# Altium footprint library Custom pcb footprint.PcbLib: 46 footprints (part 3 of 3)
Each footprint in its own frame and in the unit in brackets; x right, y up, seen from the top. Pads: shape width x height; smd on the part's side, far side on the other; paste and mask are expansions set on the pad; w line width, h text height; cw(c..) or ccw(c..) is an arc to the next point about the centre after c.
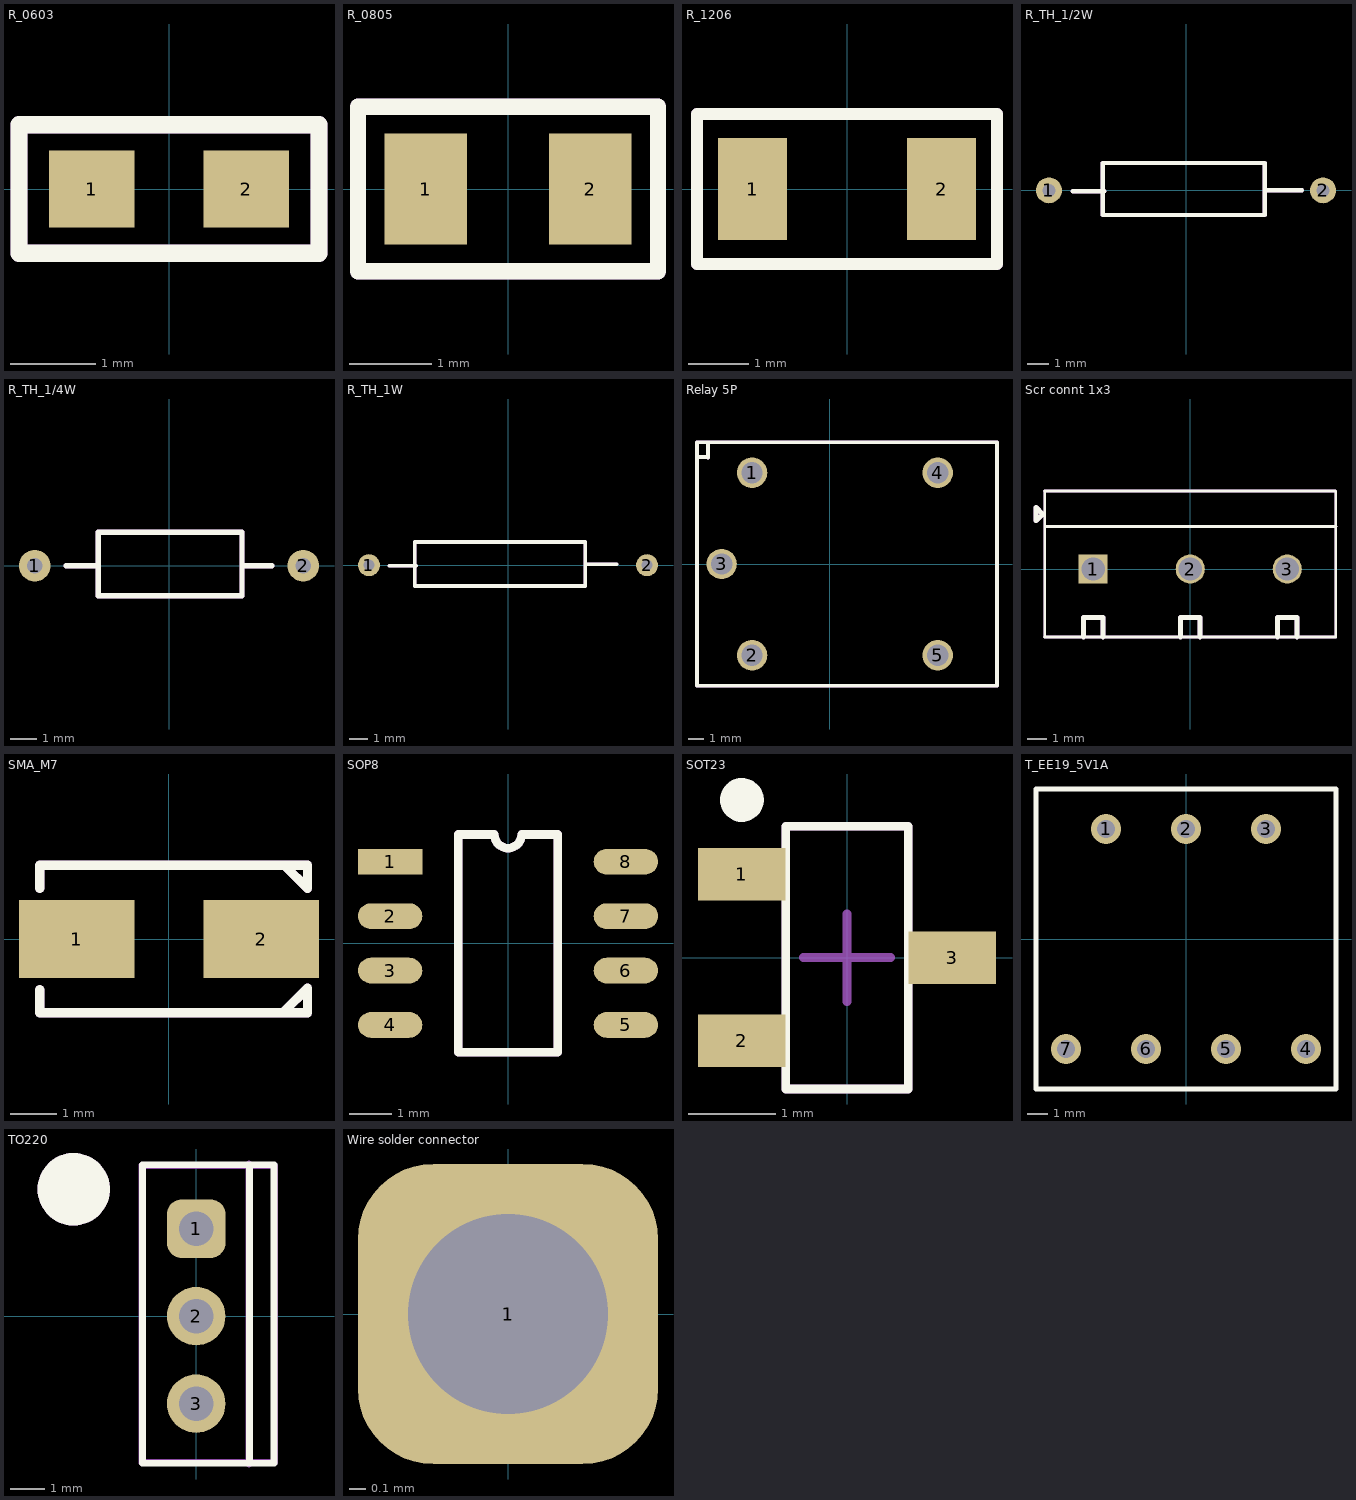
[diagram p2: the footprints below, top view; thin cyan lines are the x and y axes]

## R_0603 [mm]
pads (2):
  rect 1x0.9 smd: 1(-0.9,0) 2(0.9,0)
Top Overlay:
  lines w0.2: -1.75,-0.75 -1.75,0.75 1.75,0.75 1.75,-0.75 -1.75,-0.75
Top Assembly:
  lines w0.2: -1.75,-0.75 -1.75,0.75 1.75,0.75 1.75,-0.75 -1.75,-0.75
  text "'.Designator'" at -1.4,-0.167 h0.7
3D body "RC0603JR-070RL--3DModel-STEP-510211.STEP": height 0.56, standoff 0.01, extent -0.8,-0.4 0.8,0.4

## R_0805 [mm]
pads (2):
  rect 1x1.35 smd: 1(-1,0) 2(1,0)
Top Overlay:
  lines w0.2: -1.825,-1 -1.825,1 1.825,1 1.825,-1 -1.825,-1
Top Assembly:
  lines w0.2: -1.825,-1 -1.825,1 1.825,1 1.825,-1 -1.825,-1
  text "'.Designator'" at -1.725,-0.667 h0.7
3D body "RC0805FR-07470RL.STEP": height 0.61, standoff 0.01, extent -1,-0.625 1,0.625

## R_1206 [mm]
pads (2):
  rect 1.15x1.7 smd: 1(-1.575,0) 2(1.575,0)
Top Overlay:
  lines w0.2: -2.5,-1.25 2.5,-1.25 2.5,1.25 -2.5,1.25 -2.5,-1.25
Top Assembly:
  lines w0.2: -2.5,-1.25 2.5,-1.25 2.5,1.25 -2.5,1.25 -2.5,-1.25
  text "'.Designator'" at -2.15,-0.417 h0.7
3D body "RC1206JR-0713RL.STEP": height 0.66, standoff 0.01, extent -1.55,-0.8 1.55,0.8

## R_TH_1/2W [mm]
pads (2):
  round 1.2 hole 0.6: 1(-6.35,0) 2(6.35,0)
Top Overlay:
  lines w0.2: -5.245,-0.041 -3.781,-0.041 ; 3.65,0 5.37,0 ; -3.85,-1.143 3.65,-1.143 3.65,1.27 -3.85,1.27 -3.85,-1.143
Top Assembly:
  lines w0.2: -5.245,-0.041 -3.781,-0.041 ; 3.65,0 5.37,0 ; -3.85,-1.143 3.65,-1.143 3.65,1.27 -3.85,1.27 -3.85,-1.143
  text "'.Designator'" at -3.575,-0.565 h1.52
3D body "R_TH_500mW.step": height 3.6, standoff -1.92, extent -6.668,-1.506 6.582,1.687

## R_TH_1/4W [mm]
pads (2):
  round 1.2 hole 0.6: 1(-5.1,0) 2(5.1,0)
Top Overlay:
  lines w0.2: -3.9,0 -2.687,0 ; 2.774,0 3.9,0 ; -2.687,-1.143 -2.687,1.27 2.774,1.27 2.774,-1.143 -2.687,-1.143
Top Assembly:
  lines w0.2: -3.9,0 -2.687,0 ; 2.774,0 3.9,0 ; -2.687,-1.143 -2.687,1.27 2.774,1.27 2.774,-1.143 -2.687,-1.143
  text "'.Designator'" at -2.687,-0.635 h1.52
3D body "R_TH_250mW.step": height 2.8, standoff -1.92, extent -5.345,-1.152 5.305,1.143

## R_TH_1W [mm]
pads (2):
  round 1.2 hole 0.6: 1(-7.6,0) 2(7.6,0)
Top Overlay:
  lines w0.2: -6.495,-0.041 -5.031,-0.041 ; 4.222,0.054 5.942,0.054 ; -5.1,-1.143 -5.1,1.27 4.23,1.27 4.23,-1.143 -5.1,-1.143
Top Assembly:
  lines w0.2: -6.495,-0.041 -5.031,-0.041 ; 4.222,0.054 5.942,0.054 ; -5.1,-1.143 -5.1,1.27 4.23,1.27 4.23,-1.143 -5.1,-1.143
  text "'.Designator'" at -5.58,-0.746 h1.52
3D body "R_Th_1W.step": height 4.9, standoff -1.92, extent -7.99,-2.272 7.99,2.272

## Relay 5P [mm]
pads (5):
  round 2 hole 1.4: 1(-5.1,6) 2(-5.1,-6) 3(-7.1,0) 4(7.1,6) 5(7.1,-6)
Top Overlay:
  lines w0.254: -8.697,7.032 -7.983,7.032 ; -8,7 -8,8 ; -8.718,-8 11,-8 11,8 -8.718,8 -8.718,-8
Top Assembly:
  lines w0.254: -8.665,7.024 -8.024,7.024 -8,7 -8,8 ; -8.718,-8 11,-8 11,8 -8.718,8 -8.718,-8
  text "'.Designator'" at -2.746,-2.238 h1.52
3D body "Relay_SRD-05VDC-SL-C.STEP": height 16.2, standoff -2.6, extent -8.6,-7.8 10.6,7.8

## Scr connt 1x3 [mm] "p=5mm"
pads (3):
  rect 1.5x1.5 hole 1.2: 1(-5,0)
  round 1.5 hole 1.2: 2(0,0) 3(5,0)
Top Overlay:
  lines w0.15: -7.509,4.026 7.491,4.026 ; -7.5,-3.5 7.5,-3.5 7.5,4 ; -7.496,-3.502 -7.496,3.998 ; -7.488,2.199 7.512,2.199
  lines w0.254: -5.5,-3.5 -5.5,-2.5 -4.5,-2.5 -4.5,-3.5 ; -0.5,-3.5 -0.5,-2.5 0.5,-2.5 0.5,-3.5 ; 4.5,-3.5 4.5,-2.5 5.5,-2.5 5.5,-3.5 ; -7.946,2.502 -7.933,2.49 -7.59,2.833 -7.946,3.188 -7.946,2.502
Top Assembly:
  lines w0.15: -7.509,4.026 7.491,4.026 ; -7.5,-3.5 7.5,-3.5 7.5,4 ; -7.496,-3.502 -7.496,3.998 ; -7.488,2.199 7.512,2.199
  lines w0.254: -5.5,-3.5 -5.5,-2.5 -4.5,-2.5 -4.5,-3.5 ; -0.5,-3.5 -0.5,-2.5 0.5,-2.5 0.5,-3.5 ; 4.5,-3.5 4.5,-2.5 5.5,-2.5 5.5,-3.5 ; -7.946,2.502 -7.933,2.49 -7.59,2.833 -7.946,3.188 -7.946,2.502
  text "'.Designator'" at -3.277,-1.976 h0.7
3D body "Screw Terminal Block 5mm Blue 3-way.step": height 10.01, standoff -1.99, extent -7.65,-4 7.5,4

## SMA_M7 [mm]
pads (2):
  rect 2.5x1.7 smd: 1(-2,0) 2(2,0)
Top Overlay:
  lines w0.2: -2.8,-1.1 -2.8,-1.6 3,-1.6 3,-1.067 2.5,-1.567 ; -2.8,1.1 -2.8,1.6 3,1.6 3,1.1 2.5,1.6
Top Assembly:
  lines w0.2: -2.8,-1.1 -2.8,-1.6 3,-1.6 3,-1.067 2.5,-1.567 ; -2.8,1.1 -2.8,1.6 3,1.6 3,1.1 2.5,1.6
  text "'.Designator'" at -2.1,-0.133 h0.8
3D body "SMAZ5V1-13-F.STEP": height 2.41, standoff 0.01, extent -2.498,-1.3 2.698,1.305

## SOP8 [mm]
pads (8):
  rect 1.5x0.6 smd: 1(-2.75,1.905)
  oval 1.5x0.6 smd: 2(-2.75,0.635) 3(-2.75,-0.635) 4(-2.75,-1.905) 5(2.75,-1.905) 6(2.75,-0.635) 7(2.75,0.635) 8(2.75,1.905)
Top Overlay:
  lines w0.2: -1.165,-2.54 1.165,-2.54 1.165,2.54 0.318,2.54 cw(c0,2.54) -0.318,2.54 -1.165,2.54 -1.165,-2.54
Top Assembly:
  lines w0.2: -1.165,-2.54 1.165,-2.54 1.165,2.54 0.318,2.54 cw(c0,2.54) -0.318,2.54 -1.165,2.54 -1.165,-2.54
  text "'.Designator'" at 0.671,-2.45 h1.52
3D body "SOP-8.STEP": height 1.87, standoff 0, extent -3.066,-2.5 3.154,2.5

## SOT23 [mm] "SOT23, 3-Leads, Body 2.90x2.45mm, Pitch 0.95mm, IPC Medium Density"
height 1.1
pads (3):
  rect 1x0.6 smd: 1(-1.2,0.95) 2(-1.2,-0.95) 3(1.2,0)
Top Overlay:
  circle w0.25: c-1.2,1.8 r0.125
  lines w0.1: -0.7,-1.5 -0.7,1.5 0.7,1.5 0.7,-1.5 -0.7,-1.5
Top Assembly:
  lines w0.1: -0.7,-1.5 -0.7,1.5 0.7,1.5 0.7,-1.5 -0.7,-1.5
  text "'.Designator'" at -0.181,1.023 h0.8
Mechanical 15:
  lines w0.1: -0.5,0 0.5,0 ; 0,-0.5 0,0.5
3D body: height 1.1, standoff 0.05, extent -0.7,-1.5 0.7,1.5

## T_EE19_5V1A [mm]
pads (7):
  round 1.5 hole 0.9: 1(-4,5.5) 2(0,5.5) 3(4,5.5) 4(6,-5.5) 5(2,-5.5) 6(-2,-5.5) 7(-6,-5.5)
Top Overlay:
  lines w0.254: -7.5,-7.5 7.5,-7.5 ; -7.5,-7.5 -7.5,7.5 ; -7.5,-7.5 7.5,-7.5 ; -7.5,-7.5 -7.5,7.5 ; -7.5,7.5 7.5,7.5 ; -7.5,7.5 7.5,7.5 ; 7.5,-7.5 7.5,7.5 ; 7.5,-7.5 7.5,7.5
Top Assembly:
  text "'.Designator'" at 3.418,-3.509 h1

## TO220 [mm] "3 pin transistor 2.54 pitch"
pads (3):
  rrect50% 1.7x1.7 hole 1: 1(0,2.54)
  round 1.7 hole 1: 2(0,0) 3(0,-2.54)
Top Overlay:
  circle w1.5: c-3.556,3.683 r0.3
  lines w0.2: 1.546,-4.271 1.546,4.313 ; -1.56,-4.271 2.258,-4.271 2.258,4.396 -1.56,4.396 -1.56,-4.271
Top Assembly:
  circle w1.5: c-3.556,3.683 r0.3
  lines w0.2: 1.535,-4.291 1.535,4.416 ; -1.58,-4.25 2.278,-4.25 2.278,4.375 -1.58,4.375 -1.58,-4.25
  text "'.Designator'" at 3.272,-3.522 h1
3D body "regulator TO-220.step": height 22.32, standoff -6.94, extent -2.362,-5.08 4.445,5.12

## Wire solder connector [mm]
pads (1):
  rrect50% 1.8x1.8 hole 1.2: 1(0,0)